# Altium schematic symbol library E2S_E2S_033_V1.SchLib: 31 symbols
Pins are listed as number, name and electrical type; pins without a type are passive.

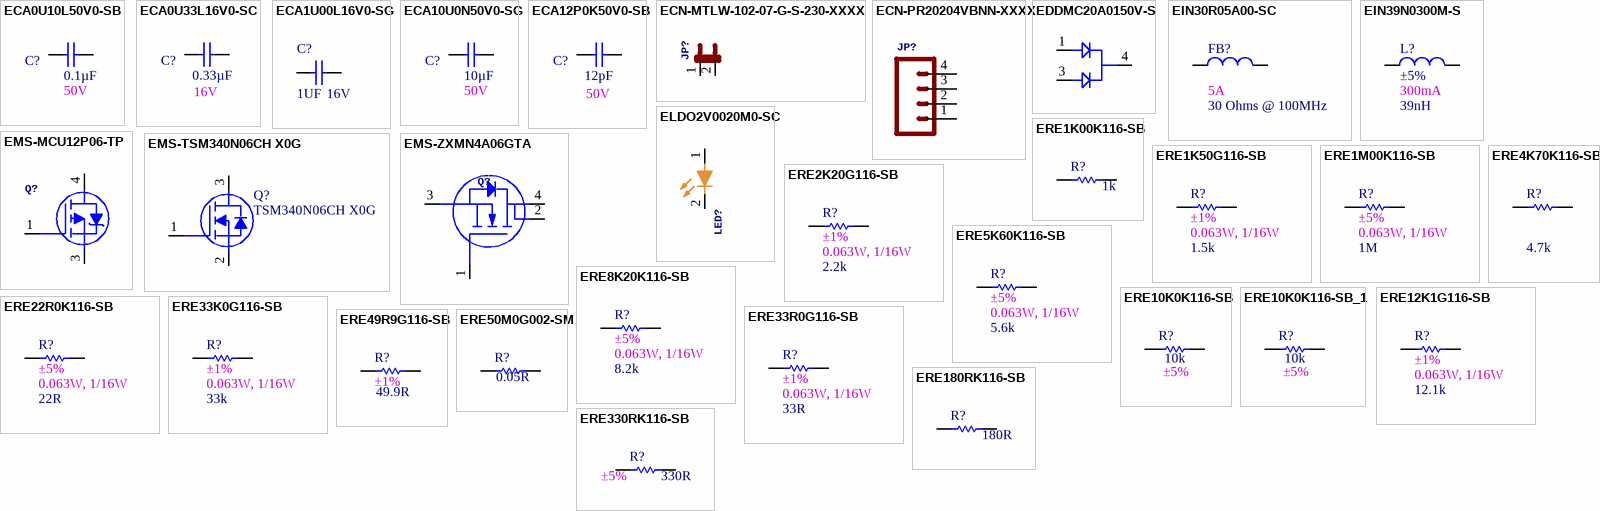
[diagram p0: symbols ECA0U10L50V0-SB to ERE330RK116-SB]

## ECA0U10L50V0-SB
designator C?, comment value 0.1µF  1st Auxiliary Field: 50V  (hidden comment: CAP CER 0.1UF 50V X7R 0402)
Manufacturer: Murata Electronics; Vendor Part Number: 490-13342-1-ND; Manufacturer Part Number: GRM155R71H104KE14J; Internal Part Number: ECA0U10L50V0-SB; Vendor Name: Digi-Key; 4th Auxiliary Field: RoHS Compliant; Component Height (mm): 0.55mm; Part Type: CAP CER 0.1UF 50V X7R 0402; 3rd Auxiliary Field: *; Temp Co: X7R; 2nd Auxiliary Field: 0.1µF
footprint SMDC0402 (Footprint not found)
pins: 1, 2

## ECA0U33L16V0-SC
designator C?, comment value 0.33µF  1st Auxiliary Field: 16V  (hidden comment: CAP CER 0.33UF 16V X7R 0603)
Manufacturer: Samsung Electro-Mechanics; Vendor Part Number: 1276-2048-1-ND; Manufacturer Part Number: CL10B334KO8NNNC; Internal Part Number: ECA0U33L16V0-SC; Vendor Name: Digi-Key; 4th Auxiliary Field: RoHS Compliant; Component Height (mm): 0.90mm; Part Type: CAP CER 0.33UF 16V X7R 0603; 3rd Auxiliary Field: *; Temp Co: X7R; 2nd Auxiliary Field: 0.33µF
footprint SMDC0603 (Footprint not found)
pins: 1, 2

## ECA1U00L16V0-SG
designator C?, comment value 1UF  2nd Auxiliary Field: 16V  (hidden comment: CAP CER 1UF 16V X7R 1206)
Manufacturer: Samsung Electro-Mechanics; Manufacturer Part Number: CL31B105KOFNNNE; Internal Part Number: ECA1U00L16V0-SG; Vendor Part Number: 1276-1783-1-ND; Component Height (mm): 1.40mm; 4th Auxiliary Field: ROHS3 Compliant; Vendor Name: Digi-Key; Part Type: CAP CER 1UF 16V X7R 1206; 3rd Auxiliary Field: *; Temp Co: X7R; 1st Auxiliary Field: 1UF
footprint SMDC1206 (Footprint not found)
pins: 1, 2

## ECA10U0N50V0-SG
designator C?, comment value 10µF  1st Auxiliary Field: 50V  (hidden comment: CAP CER 10UF 50V X5R 1206)
Manufacturer: Samsung Electro-Mechanics; Vendor Part Number: 1276-6736-1-ND; Manufacturer Part Number: CL31A106MBHNNNE; Internal Part Number: ECA10U0N50V0-SG; Vendor Name: Digi-Key; 4th Auxiliary Field: RoHS Compliant; Component Height (mm): 1.80mm; Part Type: CAP CER 10UF 50V X5R 1206; 3rd Auxiliary Field: *; Temp Co: X5R; 2nd Auxiliary Field: 10µF
footprint SMDC1206 (Footprint not found)
pins: 1, 2

## ECA12P0K50V0-SB
designator C?, comment value 12pF  1st Auxiliary Field: 50V  (hidden comment: CAP CER 12PF 50V C0G/NPO 0402)
Manufacturer: Yageo; Vendor Part Number: 311-1016-1-ND; Manufacturer Part Number: CC0402JRNPO9BN120; Internal Part Number: ECA12P0K50V0-SB; Vendor Name: Digi-Key; 4th Auxiliary Field: RoHS Compliant; Component Height (mm): 0.55mm; Temp Co: C0G, NP0; Part Type: CAP CER 12PF 50V C0G/NPO 0402; 3rd Auxiliary Field: *; 2nd Auxiliary Field: 12pF
footprint SMDC0402
pins: 1, 2

## ECN-MTLW-102-07-G-S-230-XXXX
designator JP?, comment CONN HEADER VERT 2POS 2.54MM  (value not drawn)
Manufacturer: Samtec Inc.; Manufacturer Part Number: MTLW-102-07-G-S-230; Vendor Part Number: SAM15239-ND; Internal Part Number: ECN-MTLW-102-07-G-S-230-XXXX; 4rth Auxiliary Field: ROHS3 Compliant; 2nd Auxiliary Field: 5.2A per Contact; Vendor: Digikey; Temp Co: -55°C ~ 125°C; Value: MTLW-102-07-G-S-230; 3rd Auxiliary Field: 2.54mm; 1st Auxiliary Field: *; Part Type: CONN HEADER VERT 2POS 2.54MM; Component Height: 10.92mm
footprint HDRV2W62P254_1X2_500X250X800P (Footprint not found)
pins: 1, 2

## ECN-PR20204VBNN-XXXX
designator JP?, comment PIN HEADER, THR, SINGLE ROW, .10  (value not drawn)
Manufacturer: METZ CONNECT USA Inc.; Manufacturer Part Number: PR20204VBNN; Vendor Part Number: 1849-PR20204VBNN-ND; Internal Part Number: ECN-PR20204VBNN-XXXX; 3rd Auxiliary Field: ROHS3 Compliant; 1st Auxiliary Field: 3A; 2nd Auxiliary Field: 2.54mm; Vendor: Digikey; Value: PR20204VBNN; Temp Co: -40°C ~ 105°C; Component Height(mm): 11.6mm; 4rth Auxiliary Field: *; Part Type: PIN HEADER, THR, SINGLE ROW, .10
footprint HDRV4W102P254_1X4_1016X254X838P (Footprint not found)
pins: 1, 2, 3, 4

## EDDMC20A0150V-S
designator D?, comment DIODE SCHOTTKY 20A 150V D2PAK  (value not drawn)
Manufacturer: Micro Commercial Co; Manufacturer Part Number: MBRB20150CT-TP; Vendor Part Number: 353-MBRB20150CT-TPCT-ND; Internal Part Number: EDDMC20A0150V-S; 4rth Auxiliary Field: ROHS3 Compliant; Vendor: Digikey; Temp Co: 55°C ~ 150°C; Value: MBRB20150CT-TP; 3rd Auxiliary Field: Schottky; 1st Auxiliary Field: 150V; 2nd Auxiliary Field: 20A; Part type: DIODE SCHOTTKY 20A 150V D2PAK; Component Height: *
footprint TO228P970-3N (Footprint not found)
pins: 1 A, 3 A, 4 K

## EIN30R05A00-SC
designator FB?, comment value 30 Ohms @ 100MHz  1st Auxiliary Field: 5A  (hidden comment: FERRITE BEAD 30 OHM 0603 1LN)
Manufacturer: TDK Corporation; Internal Part Number: EIN30R05A00-SC; Manufacturer Part Number: MPZ1608S300ATAH0; Vendor Part Number: 445-1562-1-ND; 3rd Auxiliary Field: RoHS Compliant; Component Height (mm): 0.75mm; 4th Auxiliary Field: 10mOhm; Vendor Name: Digi-Key; Temp Co: -55°C ~ 125°C; Part Type: FERRITE BEAD 30 OHM 0603 1LN; 2nd Auxiliary Field: *
footprint SMDL0603 (Footprint not found)
pins: 1, 2
1 alternate drawing of the same symbol

## EIN39N0300M-S
designator L?, comment value 39nH  2nd Auxiliary Field: ±5%  1st Auxiliary Field: 300mA  (hidden comment: FERRITE BEAD 30 OHM 0603 1LN)
Manufacturer: Johanson Technology Inc.; Internal Part Number: EIN39N0300M-S; Manufacturer Part Number: L-14C39NJV4T; Vendor Part Number: 712-1441-1-ND; 3rd Auxiliary Field: RoHS Compliant; Component Height (mm): 0.95mm; 4th Auxiliary Field: 850mOhm; Vendor Name: Digi-Key; Temp Co: -55°C ~ 100°C; Part Type: FIXED IND 39NH 300MA 850 MOHM
footprint SMDL0603 (Footprint not found)
pins: 1, 2
1 alternate drawing of the same symbol

## ELDO2V0020M0-SC
designator LED?, comment LED ORANGE CLEAR SMD  (value not drawn)
Manufacturer Name: Lite-On Inc.; Manufacturer Part Number: LTST-C191KFKT; Vendor Part Number: 160-1445-1-ND; Internal Part Number: ELDO2V0020M0-SC; 1st Auxiliary Field: 2V; 4rth Auxiliary Field: ROHS3 Compliant; 2nd Auxiliary Field: 20mA; Vendor Name: Digikey; Component Height(mm): 0.65mm; Value: LTST-C191KFKT; 3rd Auxiliary Field: Orange; Part Type: LED ORANGE CLEAR SMD; Temp Co: *
footprint SMDLED0603 (Footprint not found)
pins: 1 2, 2 1

## EMS-MCU12P06-TP
designator Q?, comment MOSFET P-CH 60V 12A DPAK  (value not drawn)
Manufacturer Name: Micro Commercial Co; Manufacturer Part Number: MCU12P06-TP; Vendor Part Number: 353-MCU12P06-TPCT-ND; Internal Part Number: EMS-MCU12P06-TP; 3rd Auxiliary Field: P-Channel; 4rth Auxiliary Field: ROHS3 Compliant; 2nd Auxiliary Field: 12A (Tj); Vendor Name: Digikey; Temp Co: -55°C ~ 150°C (TJ); Value: MCU12P06-TP; 1st Auxiliary Field: 60V; Part type: MOSFET P-CH 60V 12A DPAK
footprint TO229P1010X240-3N (TO-252-3, DPak (2 Leads + Tab))
pins: 1 G, 3 S, 4 D

## EMS-TSM340N06CH X0G
designator Q?, comment value TSM340N06CH X0G  (hidden comment: MOSFET N-CHANNEL 60V 30A TO251)
Manufacturer: Taiwan Semiconductor Corporation; Internal Part Number: EMS-TSM340N06CH X0G; Vendor Part Number: TSM340N06CHX0G-ND; 3rd Auxiliary Field: ROHS3 Compliant; Component Height (mm): 11.45mm; Vendor Name: Digi-Key; Temp Co: 150°C (TJ); 2nd Auxiliary Field: 30A (Tc); Part Type: MOSFET N-CHANNEL 60V 30A TO251; 4th Auxiliary Field: *; Manufacturer Part Number: TSM340N06CH X0G; 1st Auxiliary Field: 60V
footprint TO228P245X660X1145-3P (Footprint not found)
pins: 1 G, 2 S, 3 D

## EMS-ZXMN4A06GTA
designator Q?, comment MOSFET N-CH 40V 5A SOT223  (value not drawn)
Manufacturer Part Number: ZXMN4A06GTA; Vendor Part Number: ZXMN4A06GCT-ND; Internal Part Number: EMS-ZXMN4A06GTA; 3rd Auxiliary Field: N-Channel; 4rth Auxiliary Field: ROHS3 Compliant; 2nd Auxiliary Field: 5A (Ta); Manuafacturer Name: Diodes Incorporated; Vendor Name: Digikey; Temp Co: -55°C ~ 150°C (TJ); Value: ZXMN4A06GTA; 1st Auxiliary Field: 40V; Part Type: MOSFET N-CH 40V 5A SOT223; Component Height(mm): *
footprint SOT230P700X165-4N (Footprint not found)
pins: 1 GATE, 2 DRAIN, 3 SOURCE, 4

## ERE1K00K116-SB
designator R?, comment value 1k  (hidden comment: RES 1K OHM 5% 1/16W 0402)
Manufacturer: Stackpole Electronics Inc; Vendor Part Number: RMCF0402JT1K00CT-ND; Manufacturer Part Number: RMCF0402JT1K00; Internal Part Number: ERE1K00K116-SB; Vendor Name: Digi-Key; 3rd Auxiliary Field: RoHS Compliant; Component Height (mm): 0.4mm; Temp Co: ±100ppm/°C; 1st Auxiliary Field: 0.063W, 1/16W; Part Type: RES 1K OHM 5% 1/16W 0402; 4th Auxiliary Field: *; 2nd Auxiliary Field: ±5%
footprint SMDR0402 (Footprint not found)
pins: 1, 2

## ERE1K50G116-SB
designator R?, comment value 1.5k  2nd Auxiliary Field: ±1%  1st Auxiliary Field: 0.063W, 1/16W  (hidden comment: RES SMD 1.5K OHM 1% 1/16W 0402)
Manufacturer: Bourns Inc.; Vendor Part Number: CR0402-FX-1501GLFCT-ND; Manufacturer Part Number: CR0402-FX-1501GLF; Internal Part Number: ERE1K50G116-SB; Vendor Name: Digi-Key; 3rd Auxiliary Field: RoHS Compliant; Component Height (mm): 0.4mm; Temp Co: ±100ppm/°C; Part Type: RES SMD 1.5K OHM 1% 1/16W 0402; 4th Auxiliary Field: *
footprint SMDR0402 (Footprint not found)
pins: 1, 2

## ERE1M00K116-SB
designator R?, comment value 1M  2nd Auxiliary Field: ±5%  1st Auxiliary Field: 0.063W, 1/16W  (hidden comment: RES 1M OHM 5% 1/16W 0402)
Manufacturer: Stackpole Electronics Inc; Vendor Part Number: RMCF0402JT1M00CT-ND; Manufacturer Part Number: RMCF0402JT1M00; Internal Part Number: ERE1M00K116-SB; Vendor Name: Digi-Key; 3rd Auxiliary Field: RoHS Compliant; Component Height (mm): 0.4mm; Temp Co: ±100ppm/°C; Part Type: RES 1M OHM 5% 1/16W 0402; 4th Auxiliary Field: *
footprint SMDR0402 (Footprint not found)
pins: 1, 2

## ERE2K20G116-SB
designator R?, comment value 2.2k  2nd Auxiliary Field: ±1%  1st Auxiliary Field: 0.063W, 1/16W  (hidden comment: RES SMD 2.2K OHM 1% 1/16W 0402)
Manufacturer: Bourns Inc.; Vendor Part Number: CR0402-FX-2201GLFCT-ND; Manufacturer Part Number: CR0402-FX-2201GLF; Internal Part Number: ERE2K20G116-SB; Vendor Name: Digi-Key; 3rd Auxiliary Field: RoHS Compliant; Component Height (mm): 0.4mm; Temp Co: ±100ppm/°C; Part Type: RES SMD 2.2K OHM 1% 1/16W 0402; 4th Auxiliary Field: *
footprint SMDR0402 (Footprint not found)
pins: 1, 2

## ERE4K70K116-SB
designator R?, comment value 4.7k  (hidden comment: RES 4.7K OHM 5% 1/16W 0402)
Manufacturer: Stackpole Electronics Inc; Vendor Part Number: RMCF0402JT4K70CT-ND; Manufacturer Part Number: RMCF0402JT4K70; Internal Part Number: ERE4K70K116-SB; Vendor Name: Digi-Key; 3rd Auxiliary Field: RoHS Compliant; Component Height (mm): 0.4mm; Temp Co: ±100ppm/°C; 1st Auxiliary Field: 0.063W, 1/16W; Part Type: RES 4.7K OHM 5% 1/16W 0402; 4th Auxiliary Field: *; 2nd Auxiliary Field: ±5%
footprint SMDR0402 (Footprint not found)
pins: 1, 2

## ERE5K60K116-SB
designator R?, comment value 5.6k  2nd Auxiliary Field: ±5%  1st Auxiliary Field: 0.063W, 1/16W  (hidden comment: RES 5.6K OHM 5% 1/16W 0402)
Manufacturer: Stackpole Electronics Inc; Vendor Part Number: RMCF0402JT5K60CT-ND; Manufacturer Part Number: RMCF0402JT5K60; Internal Part Number: ERE5K60K116-SB; Vendor Name: Digi-Key; 3rd Auxiliary Field: RoHS Compliant; Component Height (mm): 0.4mm; Temp Co: ±100ppm/°C; Part Type: RES 5.6K OHM 5% 1/16W 0402; 4th Auxiliary Field: *
footprint SMDR0402 (Footprint not found)
pins: 1, 2

## ERE8K20K116-SB
designator R?, comment value 8.2k  2nd Auxiliary Field: ±5%  1st Auxiliary Field: 0.063W, 1/16W  (hidden comment: RES 8.2K OHM 5% 1/16W 0402)
Manufacturer: Stackpole Electronics Inc; Vendor Part Number: 738-RMCF0402JT8K20CT-ND; Manufacturer Part Number: RMCF0402JT8K20; Internal Part Number: ERE8K20K116-SB; Vendor Name: Digi-Key; 3rd Auxiliary Field: RoHS Compliant; Component Height (mm): 0.4mm; Temp Co: ±100ppm/°C; Part Type: RES 8.2K OHM 5% 1/16W 0402; 4th Auxiliary Field: *
footprint SMDR0402 (Footprint not found)
pins: 1, 2

## ERE10K0K116-SB
designator R?, comment value 10k  2nd Auxiliary Field: ±5%  (hidden comment: RES SMD 10K OHM 5% 1/16W 0402)
Manufacturer: Bourns Inc.; Vendor Part Number: CR0402-JW-103GLFCT-ND; Manufacturer Part Number: CR0402-JW-103GLF; Internal Part Number: ERE10K0K116-SB; Vendor Name: Digi-Key; 3rd Auxiliary Field: RoHS Compliant; Component Height (mm): 0.4mm; Temp Co: ±200ppm/°C; 1st Auxiliary Field: 0.063W, 1/16W; Part Type: RES SMD 10K OHM 5% 1/16W 0402; 4th Auxiliary Field: *
footprint SMDR0402 (Footprint not found)
pins: 1, 2

## ERE10K0K116-SB_1
designator R?, comment value 10k  2nd Auxiliary Field: ±5%  (hidden comment: RES SMD 10K OHM 5% 1/16W 0402)
Manufacturer: Bourns Inc.; Vendor Part Number: CR0402-JW-103GLFCT-ND; Manufacturer Part Number: CR0402-JW-103GLF; Internal Part Number: ERE10K0K116-SB; Vendor Name: Digi-Key; 3rd Auxiliary Field: RoHS Compliant; Component Height (mm): 0.4mm; Temp Co: ±200ppm/°C; 1st Auxiliary Field: 0.063W, 1/16W; Part Type: RES SMD 10K OHM 5% 1/16W 0402; 4th Auxiliary Field: *
footprint SMDR0402 (Footprint not found)
pins: 1, 2

## ERE12K1G116-SB
designator R?, comment value 12.1k  2nd Auxiliary Field: ±1%  1st Auxiliary Field: 0.063W, 1/16W  (hidden comment: RES 12.1K OHM 1% 1/16W 0402)
Manufacturer: Stackpole Electronics Inc; Vendor Part Number: RMCF0402FT12K1CT-ND; Manufacturer Part Number: RMCF0402FT12K1; Internal Part Number: ERE12K1G116-SB; Vendor Name: Digi-Key; 3rd Auxiliary Field: RoHS Compliant; Component Height (mm): 0.4mm; Temp Co: ±100ppm/°C; Part Type: RES 12.1K OHM 1% 1/16W 0402; 4th Auxiliary Field: *
footprint SMDR0402 (Footprint not found)
pins: 1, 2

## ERE22R0K116-SB
designator R?, comment value 22R  2nd Auxiliary Field: ±5%  1st Auxiliary Field: 0.063W, 1/16W  (hidden comment: RES 22 OHM 5% 1/16W 0402)
Manufacturer: Stackpole Electronics Inc; Vendor Part Number: RMCF0402JT22R0CT-ND; Manufacturer Part Number: RMCF0402JT22R0; Internal Part Number: ERE22R0K116-SB; Vendor Name: Digi-Key; 3rd Auxiliary Field: RoHS Compliant; Component Height (mm): 0.4mm; Temp Co: ±100ppm/°C; Part Type: RES 22 OHM 5% 1/16W 0402; 4th Auxiliary Field: *
footprint SMDR0402 (Footprint not found)
pins: 1, 2

## ERE33K0G116-SB
designator R?, comment value 33k  2nd Auxiliary Field: ±1%  1st Auxiliary Field: 0.063W, 1/16W  (hidden comment: RES 33K OHM 1% 1/16W 0402)
Manufacturer: Stackpole Electronics Inc; Vendor Part Number: RMCF0402FT33K0CT-ND; Manufacturer Part Number: RMCF0402FT33K0; Internal Part Number: ERE33K0G116-SB; Vendor Name: Digi-Key; 3rd Auxiliary Field: RoHS Compliant; Component Height (mm): 0.4mm; Temp Co: ±100ppm/°C; Part Type: RES 33K OHM 1% 1/16W 0402; 4th Auxiliary Field: *
footprint SMDR0402 (Footprint not found)
pins: 1, 2

## ERE33R0G116-SB
designator R?, comment value 33R  2nd Auxiliary Field: ±1%  1st Auxiliary Field: 0.063W, 1/16W  (hidden comment: RES SMD 33 OHM 1% 1/16W 0402)
Manufacturer: Bourns Inc.; Vendor Part Number: CR0402-FX-33R0GLFCT-ND; Manufacturer Part Number: CR0402-FX-33R0GLF; Internal Part Number: ERE33R0G116-SB; Vendor Name: Digi-Key; 3rd Auxiliary Field: ROHS3 Compliant; Component Height (mm): 0.4mm; Temp Co: ±100ppm/°C; Part Type: RES SMD 33 OHM 1% 1/16W 0402; 4th Auxiliary Field: *
footprint SMDR0402 (Footprint not found)
pins: 1, 2

## ERE49R9G116-SB
designator R?, comment value 49.9R  2nd Auxiliary Field: ±1%  (hidden comment: RES 49.9 OHM 1% 1/16W 0402)
Manufacturer: Stackpole Electronics Inc; Vendor Part Number: RMCF0402FT49R9CT-ND; Manufacturer Part Number: RMCF0402FT49R9; Internal Part Number: ERE49R9G116-SB; Vendor Name: Digi-Key; 3rd Auxiliary Field: RoHS Compliant; Component Height (mm): 0.4mm; Temp Co: ±100ppm/°C; 1st Auxiliary Field: 0.063W, 1/16W; Part Type: RES 49.9 OHM 1% 1/16W 0402; 4th Auxiliary Field: *
footprint SMDR0402 (Footprint not found)
pins: 1, 2

## ERE50M0G002-SM
designator R?, comment value 0.05R  (hidden comment: RES 0.05 OHM 1% 2W 2512)
Manufacturer: Stackpole Electronics Inc; Vendor Part Number: CSRN2512FK50L0CT-ND; Manufacturer Part Number: CSRN2512FK50L0; Internal Part Number: ERE50M0G002-SM; Vendor Name: Digi-Key; 4th Auxiliary Field: ROHS3 Compliant; Component Height (mm): 0.70mm; Temp Co: ±200ppm/°C; Part Type: RES 0.05 OHM 1% 2W 2512; 3rd Auxiliary Field: *; 1st Auxiliary Field: 2W; 2nd Auxiliary Field: ±1%
footprint SMDR2512 (Footprint not found)
pins: 1, 2

## ERE180RK116-SB
designator R?, comment value 180R  (hidden comment: RES 180 OHM 5% 1/16W 0402)
Manufacturer: Stackpole Electronics Inc; Vendor Part Number: RMCF0402JT180RCT-ND; Manufacturer Part Number: RMCF0402JT180R; Internal Part Number: ERE180RK116-SB; Vendor Name: Digi-Key; 3rd Auxiliary Field: RoHS Compliant; Component Height (mm): 0.4mm; Temp Co: ±100ppm/°C; Part Type: RES 180 OHM 5% 1/16W 0402; 4th Auxiliary Field: *; 2nd Auxiliary Field: ±5%; 1st Auxiliary Field: 1/16W
footprint SMDR0402 (Footprint not found)
pins: 1, 2

## ERE330RK116-SB
designator R?, comment value 330R  2nd Auxiliary Field: ±5%  (hidden comment: RES 330 OHM 5% 1/16W 0402)
Manufacturer: Stackpole Electronics Inc; Vendor Part Number: RMCF0402JT330RCT-ND; Manufacturer Part Number: RMCF0402JT330R; Internal Part Number: ERE330RK116-SB; Vendor Name: Digi-Key; 3rd Auxiliary Field: RoHS Compliant; Component Height (mm): 0.4mm; Temp Co: ±100ppm/°C; 1st Auxiliary Field: 0.063W, 1/16W; Part Type: RES 330 OHM 5% 1/16W 0402; 4th Auxiliary Field: *
footprint SMDR0402 (Footprint not found)
pins: 1, 2